# Altium footprint library RESC0402(1005)_M.PcbLib: 1 footprints
Each footprint in its own frame and in the unit in brackets; x right, y up, seen from the top. Pads: shape width x height; smd on the part's side, far side on the other; paste and mask are expansions set on the pad; w line width, h text height; cw(c..) or ccw(c..) is an arc to the next point about the centre after c.
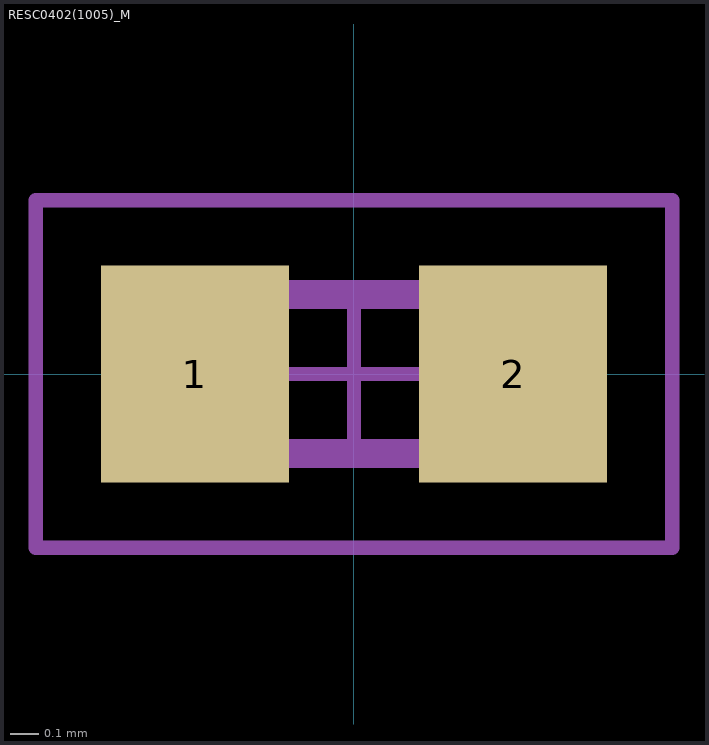
[diagram p0: the footprint, top view; thin cyan lines are the x and y axes]

## RESC0402(1005)_M [mm] "Chip Resistor, Body 1.0x0.5mm, IPC Low Density"
height 0.4
pads (2):
  rect 0.65x0.75 smd: 1(-0.55,0) 2(0.55,0)
Mechanical 13:
  lines w0.1: -0.525,-0.275 -0.525,0.275 0.525,0.275 0.525,-0.275 -0.525,-0.275
Mechanical 15:
  lines w0.05: -0.275,0 0.275,0 ; 0,-0.275 0,0.275 ; -1.1,-0.6 -1.1,0.6 1.1,0.6 1.1,-0.6 -1.1,-0.6
3D body: height 0.4, standoff 0, extent -0.525,-0.275 -0.3,0.275
3D body: height 0.4, standoff 0, extent -0.3,-0.275 0.3,0.275
3D body: height 0.4, standoff 0, extent 0.3,-0.275 0.525,0.275